# EAGLE library part WING_8BIT (library dan-gadgetfactory)
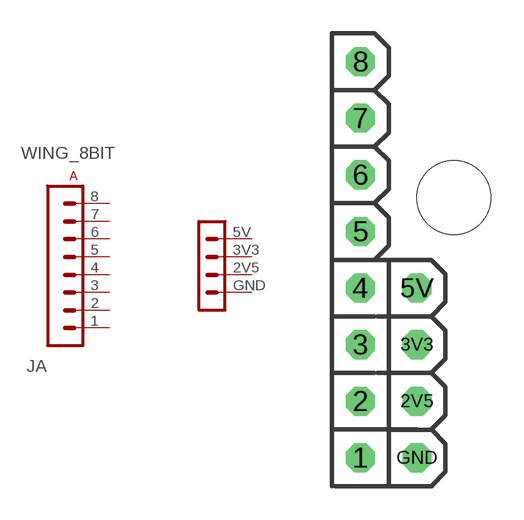
[diagram p1: symbol with the pads of WING_8BIT; footprint WING_8BIT]

Designator prefix J; gates A=WING_8BIT P=WING_POWER

## WING_8BIT  [WING_8BIT]
1  A:A1  pas
2  A:A2  pas
2V5  P:2V5  pas
3  A:A3  pas
3V3  P:3V3  pas
4  A:A4  pas
5  A:A5  pas
5V  P:5V  pas
6  A:A6  pas
7  A:A7  pas
8  A:A8  pas
GND  P:GND  pas

## Footprint WING_8BIT (pad centres in mm)
drill 0.8 octagon: 1 1.27,-8.89; 2 1.27,-6.35; 2V5 3.81,-6.35; 3 1.27,-3.81; 3V3 3.81,-3.81; 4 1.27,-1.27; 5 1.27,1.27; 5V 3.81,-1.27; 6 1.27,3.81; 7 1.27,6.35; 8 1.27,8.89; GND 3.81,-8.89
hole 3.302 at 5.461,2.794